# EAGLE library part TPS2111APWR (library untitled1)
TPS2111APWR(TI) - Auto-Switching Power Mux TPS211xA family enables seamless transition between two power supplies. ・Vin = 2.8V to 5.5V ・2-Input, 1-Output Power Multiplexer with Low Rds(84mΩ) switches ・Manual & Auto-Switching Operating Modes ・Package : TSSOP-8 for more info, visit at http://www.tij.co.jp/product/jp/tps2111a&lpos=Middle_Container&lid=Alternative_Devices
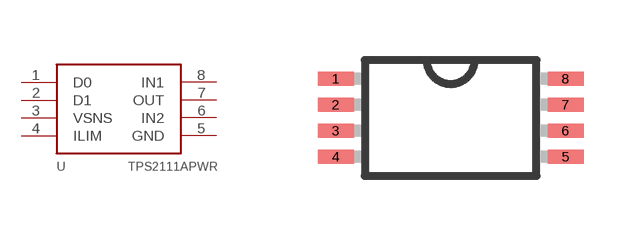
[diagram p0: symbol with the pads of TPS2111APWR; footprint TPS2111APWR]

Designator prefix -

## TPS2111APWR  [TPS2111APWR]
1  D0  in
2  D1  in
3  VSNS  in
4  ILIM  pas
5  GND  pwr
6  IN2  pwr
7  OUT  out
8  IN1  pwr

## Footprint TPS2111APWR (pad centres in mm)
smd 0.9 x 0.35: 1 -2.875,0.975; 2 -2.875,0.325; 3 -2.875,-0.325; 4 -2.875,-0.975; 5 2.875,-0.975; 6 2.875,-0.325; 7 2.875,0.325; 8 2.875,0.975